# Altium footprint library RSX_Connectors.PcbLib: 17 footprints (part 1 of 2)
Each footprint in its own frame and in the unit in brackets; x right, y up, seen from the top. Pads: shape width x height; smd on the part's side, far side on the other; paste and mask are expansions set on the pad; w line width, h text height; cw(c..) or ccw(c..) is an arc to the next point about the centre after c.
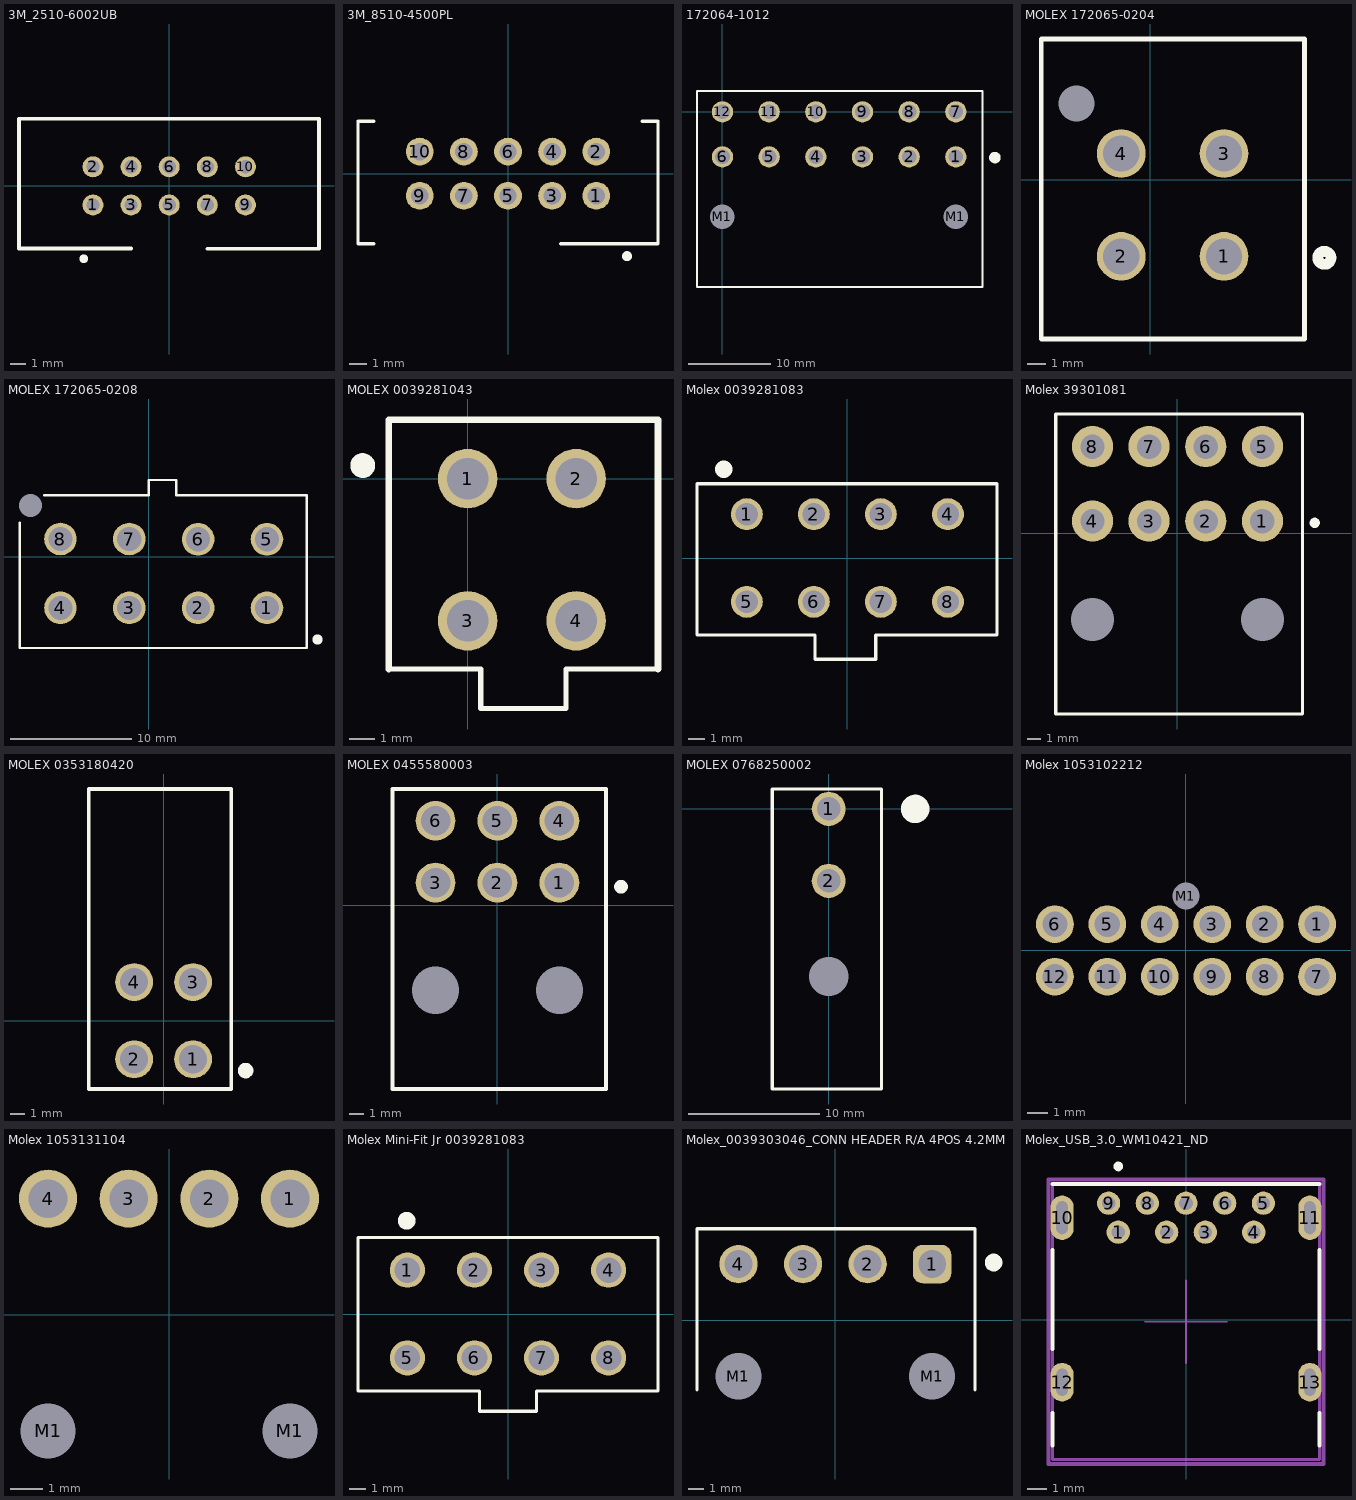
[diagram p0: the footprints below, top view; thin cyan lines are the x and y axes]

## 3M_2510-6002UB [mm] "Connector Header Through Hole 10 position 0.100\" (2.54mm)"
pads (10):
  round 1.4 hole 0.889: 1(-5.08,-1.27) 2(-5.08,1.27) 3(-2.54,-1.27) 4(-2.54,1.27) 5(0,-1.27) 6(0,1.27) 7(2.54,-1.27) 8(2.54,1.27) 9(5.08,-1.27) 10(5.08,1.27)
Top Overlay:
  circle w0.5: c-5.7,-4.851 r0.036
  lines w0.254: -2.54,-4.166 -10.008,-4.166 -10.008,4.47 9.982,4.47 ; 2.54,-4.191 9.982,-4.191 9.982,4.445
3D body "2510-6002-XX_STEP.stp": height 9.4, standoff -3.35, extent -10.008,-4.166 10.008,4.47

## 3M_8510-4500PL [mm] "10 Position Receptacle Connector  Through Hole"
pads (10):
  round 1.6 hole 1: 1(5.08,-1.27) 2(5.08,1.27) 3(2.54,-1.27) 4(2.54,1.27) 5(0,-1.27) 6(0,1.27) 7(-2.54,-1.27) 8(-2.54,1.27) 9(-5.08,-1.27) 10(-5.08,1.27)
Top Overlay:
  circle w0.5: c6.858,-4.75 r0.036
  lines w0.2: -7.727,-4.033 -8.636,-4.033 -8.636,3.017 -8.63,3.023 -7.722,3.023 ; 3.048,-4.033 8.636,-4.033 8.636,3.017 8.63,3.023 7.722,3.023
3D body "8510-4500PL-01_step.stp": height 10.79, standoff -2.81, extent -8.636,-4.033 8.584,3.017

## 172064-1012 [mm] "Connector Header Through Hole, Right Angle 12 position 0.224\" (5.70mm)"
pads (14):
  round 2.6 hole 1.8: 1(28.5,-5.5) 2(22.8,-5.5) 3(17.1,-5.5) 4(11.4,-5.5) 5(5.7,-5.5) 6(0,-5.5) 7(28.5,0) 8(22.8,0) 9(17.1,0) 10(11.4,0) 11(5.7,0) 12(0,0)
  round 2.6 hole 3 unplated: M1(0,-12.8) M1(28.5,-12.8)
Top Overlay:
  circle w0.9: c33.274,-5.588 r0.254
  lines w0.2: -3.11,-21.395 31.75,-21.395 31.75,0.567 31.75,2.54 0.508,2.54 -3.11,2.54 -3.11,0.567 -3.11,-21.395
3D body "1720641012.stp": height 14.55, standoff -3.59, extent -3.11,-21.395 31.75,0.567

## MOLEX 172065-0204 [mm]
pads (5):
  round 2.7 hole 2: 1(4.09,-4.235) 2(-1.61,-4.235) 3(4.09,1.465) 4(-1.61,1.465)
  round 0 hole 2: 5(-4.09,4.235)
Top Overlay:
  circle w0.6: c9.652,-4.318 r0.364
  lines w0.254: -6.055,-8.822 8.55,-8.822 8.55,-8.695 8.55,7.815 -6.055,7.815 -6.055,7.18 -6.055,-8.822

## MOLEX 172065-0208 [mm] "Connector Header Through Hole 8 position 0.224\" (5.70mm)"
pads (9):
  round 2.7 hole 2: 1(9.79,-4.236) 2(4.09,-4.236) 3(-1.61,-4.236) 4(-7.31,-4.236) 5(9.79,1.439) 6(4.09,1.439) 7(-1.61,1.464) 8(-7.31,1.464)
  round 0 hole 1.9: 6(-9.79,4.236)
Top Overlay:
  circle w0.6: c13.97,-6.858 r0.127
  lines w0.2: -10.668,2.794 -10.668,-7.558 13.097,-7.558 13.097,5.08 2.286,5.08 2.286,6.35 0,6.35 0,5.08 -8.636,5.08
3D body "768290108.stp": height 15.61, standoff -2.97, extent -10.5,-7.54 12.96,6.495

## MOLEX 0039281043 [mm] "Connector Header Through Hole 4 position 0.165\" (4.20mm)"
pads (4):
  round 2.3 hole 1.6: 1(0,0) 2(4.2,0) 3(0,-5.5) 4(4.2,-5.5)
Top Overlay:
  circle w0.6: c-4.064,0.508 r0.18
  lines w0.2: -3.048,-7.366 0.508,-7.366 0.508,-8.89 3.81,-8.89 3.81,-7.366 7.366,-7.366
  lines w0.254: -3.048,-7.366 -3.048,2.286 7.366,2.286 7.366,-7.366
3D body "039281043.stp": height 12.8, standoff -3.5, extent -3.066,-8.816 7.334,2.184

## Molex 0039281083 [mm] "Connector Header Through Hole 8 position 0.165\" (4.20mm)"
pads (8):
  round 2 hole 1.4: 1(-6.3,2.75) 2(-2.1,2.75) 3(2.1,2.75) 4(6.3,2.75) 5(-6.3,-2.75) 6(-2.1,-2.75) 7(2.1,-2.75) 8(6.3,-2.75)
Top Overlay:
  circle w1: c-7.747,5.563 r0.036
  lines w0.2: -6.528,4.648 -9.425,4.648 -9.425,-4.826 -2.032,-4.826 -2.032,-6.35 1.778,-6.35 1.778,-4.826 9.375,-4.826 9.375,4.651 -6.528,4.651
3D body "039281083.stp": height 12.8, standoff -3.5, extent -9.451,-6.403 9.349,4.597

## Molex 39301081 [mil]
pads (10):
  round 120 hole 71: 1(247.5,35) 2(82.5,35) 3(-82.5,35) 4(-247.5,35) 5(247.5,252) 6(82.5,252) 7(-82.5,252) 8(-247.5,252)
  round 0 hole 125.98 unplated: 9(247.5,-252) 10(-247.5,-252)
Top Overlay:
  circle w19.68: c400,30 r5
  lines w10: -355,-527 -355,347 364.5,347 364.5,-527 -355,-527
3D body "039301081.stp": height 448.82, standoff -141.73, extent -358.91,-513.42 365.5,271.42

## MOLEX 0353180420 [mm] "Connector Header Through Hole, Right Angle 4 position 0.165\" (4.20mm)"
pads (4):
  round 2.7 hole 2: 1(2.1,-2.75) 2(-2.1,-2.75) 3(2.1,2.75) 4(-2.1,2.75)
Top Overlay:
  circle w0.6: c5.842,-3.556 r0.254
  lines w0.254: -5.334,-4.87 -5.334,16.51 4.826,16.51 4.826,-4.87 -5.334,-4.87
3D body "353180420.stp": height 11.01, standoff -4.39, extent -5.268,-3.419 4.732,16.516

## MOLEX 0455580003 [mm] "Connector Header Through Hole, Right Angle 6 position 0.165\" (4.20mm)"
height 3.6
pads (8):
  round 2.7 hole 2: 1(4.2,1.55) 2(0,1.55) 3(-4.2,1.55) 4(4.2,5.75) 5(0,5.75) 6(-4.2,5.75)
  round 0 hole 3.2: 6(-4.2,-5.75) 6(4.2,-5.75)
Top Overlay:
  circle w0.6: c8.382,1.27 r0.162
  lines w0.254: -7.112,-12.446 -7.112,7.9 7.366,7.9 7.366,-12.446 -7.112,-12.446
3D body "455580003.stp": height 11.01, standoff -4, extent -6.97,-12.314 7.23,6.321

## MOLEX 0768250002 [mm]
pads (3):
  round 2.6 hole 1.8: 1(0,0) 2(0,-5.5)
  round 2.6 hole 3: ""(0,-12.8)
Top Overlay:
  circle w1.16: c6.604,0 r0.508
  lines w0.254: -4.318,-21.395 4.031,-21.395 4.031,1.524 0,1.524 -4.318,1.524 -4.318,-21.395
3D body: height 14.05, standoff -4.09, extent -4.318,-21.395 4.031,0.567

## Molex 1053102212 [mm] "Connector Header Through Hole 12 position 0.098\" (2.50mm)"
pads (13):
  round 1.8 hole 1.2 unplated: 1(6.25,1.25) 2(3.75,1.25) 3(1.25,1.25) 4(-1.25,1.25) 5(-3.75,1.25) 6(-6.25,1.25) 7(6.25,-1.25) 8(3.75,-1.25) 9(1.25,-1.25) 10(-1.25,-1.25) 11(-3.75,-1.25) 12(-6.25,-1.25)
  round 1 hole 1.3 unplated: M1(0,2.59)
3D body "1053102212.stp": height 10.52, standoff -3.19, extent -7.97,-2.99 7.97,5.85

## Molex 1053131104 [mm] "Connector Header Through Hole, Right Angle 4 position 0.098\" (2.50mm)"
pads (6):
  round 1.8 hole 1.2: 1(3.75,3.6) 2(1.25,3.6) 3(-1.25,3.6) 4(-3.75,3.6)
  round 1 hole 1.7 unplated: M1(-3.75,-3.6) M1(3.75,-3.6)
3D body "1053132204.stp": height 6.65, standoff -3.19, extent -5.37,-8.19 5.57,3.968

## Molex Mini-Fit Jr 0039281083 [mm]
pads (8):
  round 2.2 hole 1.6: 1(-6.3,2.75) 2(-2.1,2.75) 3(2.1,2.75) 4(6.3,2.75) 5(-6.3,-2.75) 6(-2.1,-2.75) 7(2.1,-2.75) 8(6.3,-2.75)
Top Overlay:
  circle w0.6: c-6.35,5.842 r0.254
  lines w0.2: -9.4,-4.826 -1.778,-4.826 -1.778,-6.096 1.778,-6.096 1.778,-4.826 9.398,-4.826 9.398,4.572 9.4,4.572 9.4,4.8 -9.4,4.8 -9.4,-4.826
3D body "039281083.stp": height 12.8, standoff -3.5, extent -9.4,-6.2 9.4,4.8

## Molex_0039303046_CONN HEADER R/A 4POS 4.2MM [mm] "Connector Header Through Hole, Right Angle 4 position 0.165\" (4.20mm)"
pads (6):
  rrect50% 2.5x2.5 hole 1.8: 1(6.3,3.65)
  round 2.5 hole 1.8: 2(2.1,3.65) 3(-2.1,3.65) 4(-6.3,3.65)
  round 1.6 hole 3 unplated: M1(-6.3,-3.65) M1(6.3,-3.65)
Top Overlay:
  circle w0.7: c10.3,3.75 r0.224
  lines w0.2: -9,-4.55 -9,4.15 -9,5.95 9.1,5.95 9.1,4.15 9.1,-4.55
3D body "039303046.stp": height 7.2, standoff -3.5, extent -8.95,-10.277 9.05,4.158

## Molex_USB_3.0_WM10421_ND [mm] "USB 3.0 Type A Receptacle Connector 9 Position Through Hole"
height 1.2
pads (13):
  round 1.2 hole 0.7 paste-1000 mask+0: 1(-3.5,4.525) 2(-1,4.525) 3(1,4.525) 4(3.5,4.525) 5(4,6.025) 6(2,6.025) 7(0,6.025) 8(-2,6.025) 9(-4,6.025)
  oval 1.2x2.3 hole 1.7 slot 0.6 at 0 deg paste-1000 mask+0: 10(-6.4,5.275) 11(6.4,5.275)
  oval 1.2x2 hole 1.4 slot 0.6 at 0 deg paste-1000 mask+0: 12(-6.4,-3.225) 13(6.4,-3.225)
Top Overlay:
  circle w0.25: c-3.5,7.925 r0.125
  lines w0.2: -6.9,-6.5 -6.9,-4.8 ; -6.9,-1.5 -6.9,3.6 ; -6.9,7.025 6.9,7.025 ; 6.9,-6.5 6.9,-4.8 ; 6.9,-1.5 6.9,3.6
Mechanical 10:
  lines w0.2: -7.1,-7.45 -7.1,7.25 7.1,7.25 7.1,-7.45 -7.1,-7.45
  text ".Designator" at 0,-0.1 h1
Mechanical 12:
  lines w0.152: -6.9,-7.225 -6.9,7.025 6.9,7.025 6.9,-7.225 -6.9,-7.225
Mechanical 15:
  lines w0.1: -2.13,-0.1 2.13,-0.1 ; 0,-2.23 0,2.03
  lines w0.2: -7.1,-7.45 -7.1,7.25 7.1,7.25 7.1,-7.45 -7.1,-7.45
3D body "3dmodel.step": height 0.25, standoff 0, extent -7.1,-7.45 7.1,7.25